# Altium schematic symbol library kmilo17pet-NSC_LDO.SchLib: 2675 symbols (part 49 of 65)
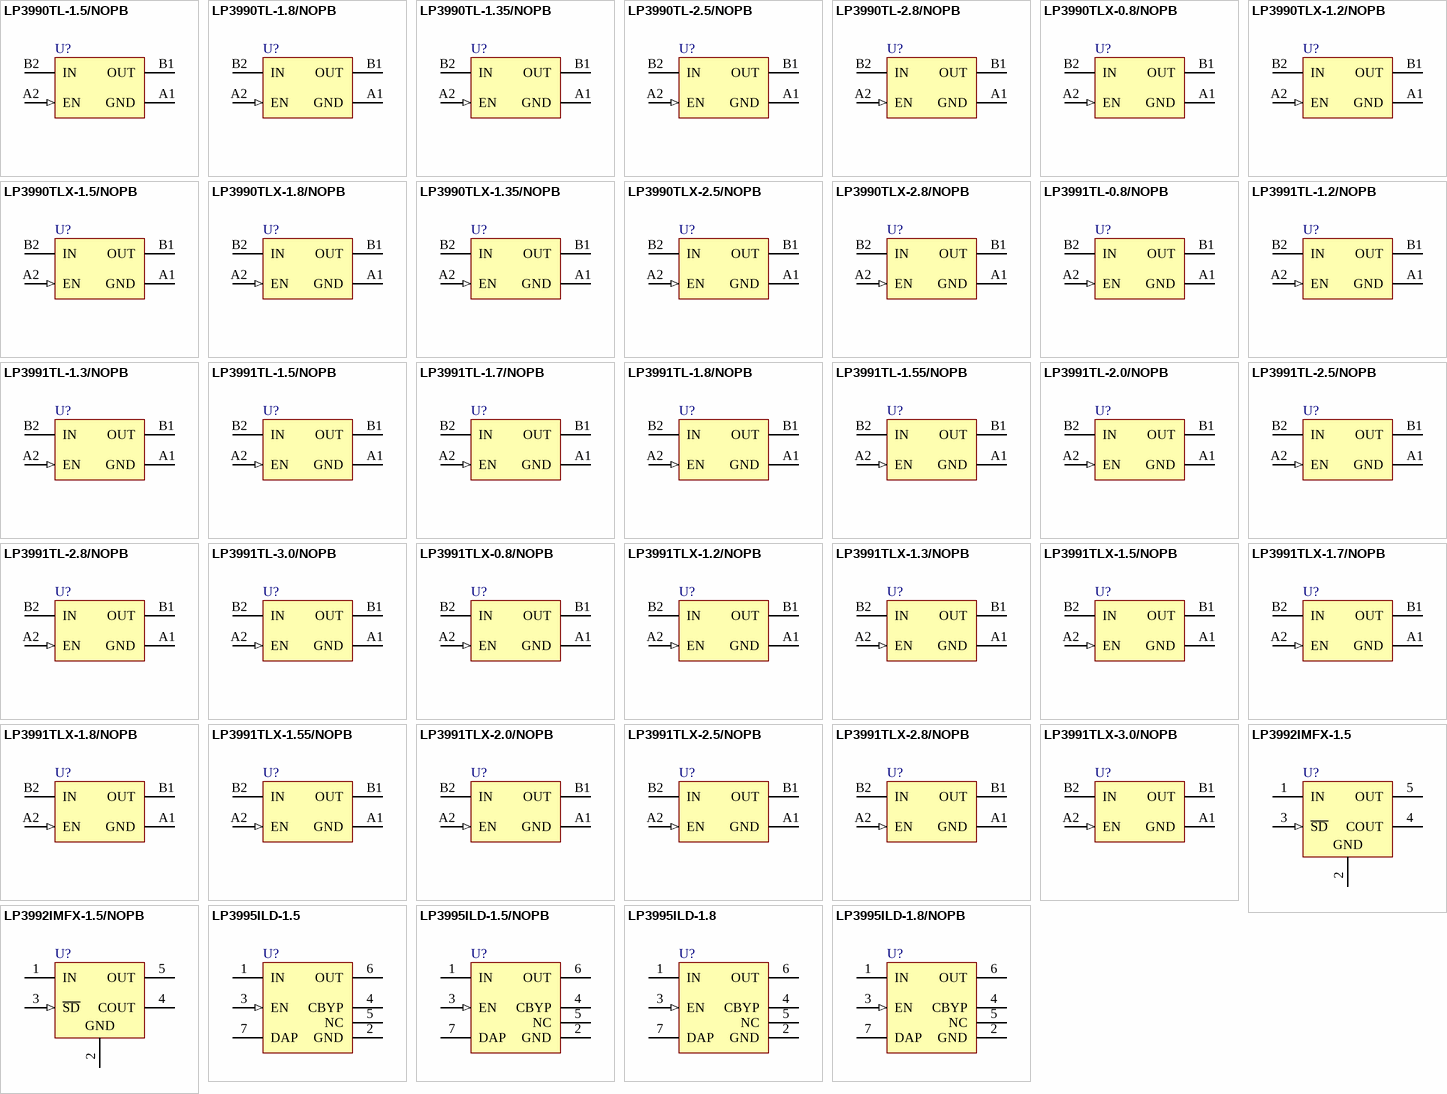
[diagram p115: symbols LP3990TL-1.5/NOPB to LP3995ILD-1.8/NOPB]

## LP3995ILD-1.8/NOPB
designator U?
Micropower 150mA CMOS Voltage Regulator with Active Shutdown., 6-pin LLP, Pb-Free; PartNumber: LP3995ILD-1.8/NOPB; Manufacturer: National Semiconductor; PackageTopMarking: ZXYTT*L022B; PowerWise: N; CompType: LDO IC; High-Reliability: Y; DatasheetVersion: Jan-2008; PackageVersion: revA, Jul-2001; PackageReference: LDE06A; PackageDescription: LLP, Plastic, Dual, 2.92 x 3.29 x 0.75mm Body, 6 Lead, 0.95mm Pitch, SOT23 Land; RoHS: Y; PinCount: 6; ComponentLink1Description: Manufacturer URL; ComponentLink1URL: http://www.national.com/; ComponentLink2Description: LP3995 Datasheet; ComponentLink2URL: http://www.national.com/ds/LP/LP3995.pdf; ComponentLink3Description: LP3995 Web Page; ComponentLink3URL: http://www.national.com/pf/LP/LP3995.html; ComponentLink4Description: LDE06A Package Page; ComponentLink4URL: http://www.national.com/packaging/folders/lde06a.html
footprint LDE06A (PSON, 6-Leads, Body 2.92x3.29 mm, Pitch 0.95mm, NSC Recommended)
pins: 1 IN (power), 2 GND (power), 3 EN (in), 4 CBYP, 5 NC, 6 OUT (power), 7 DAP (power)

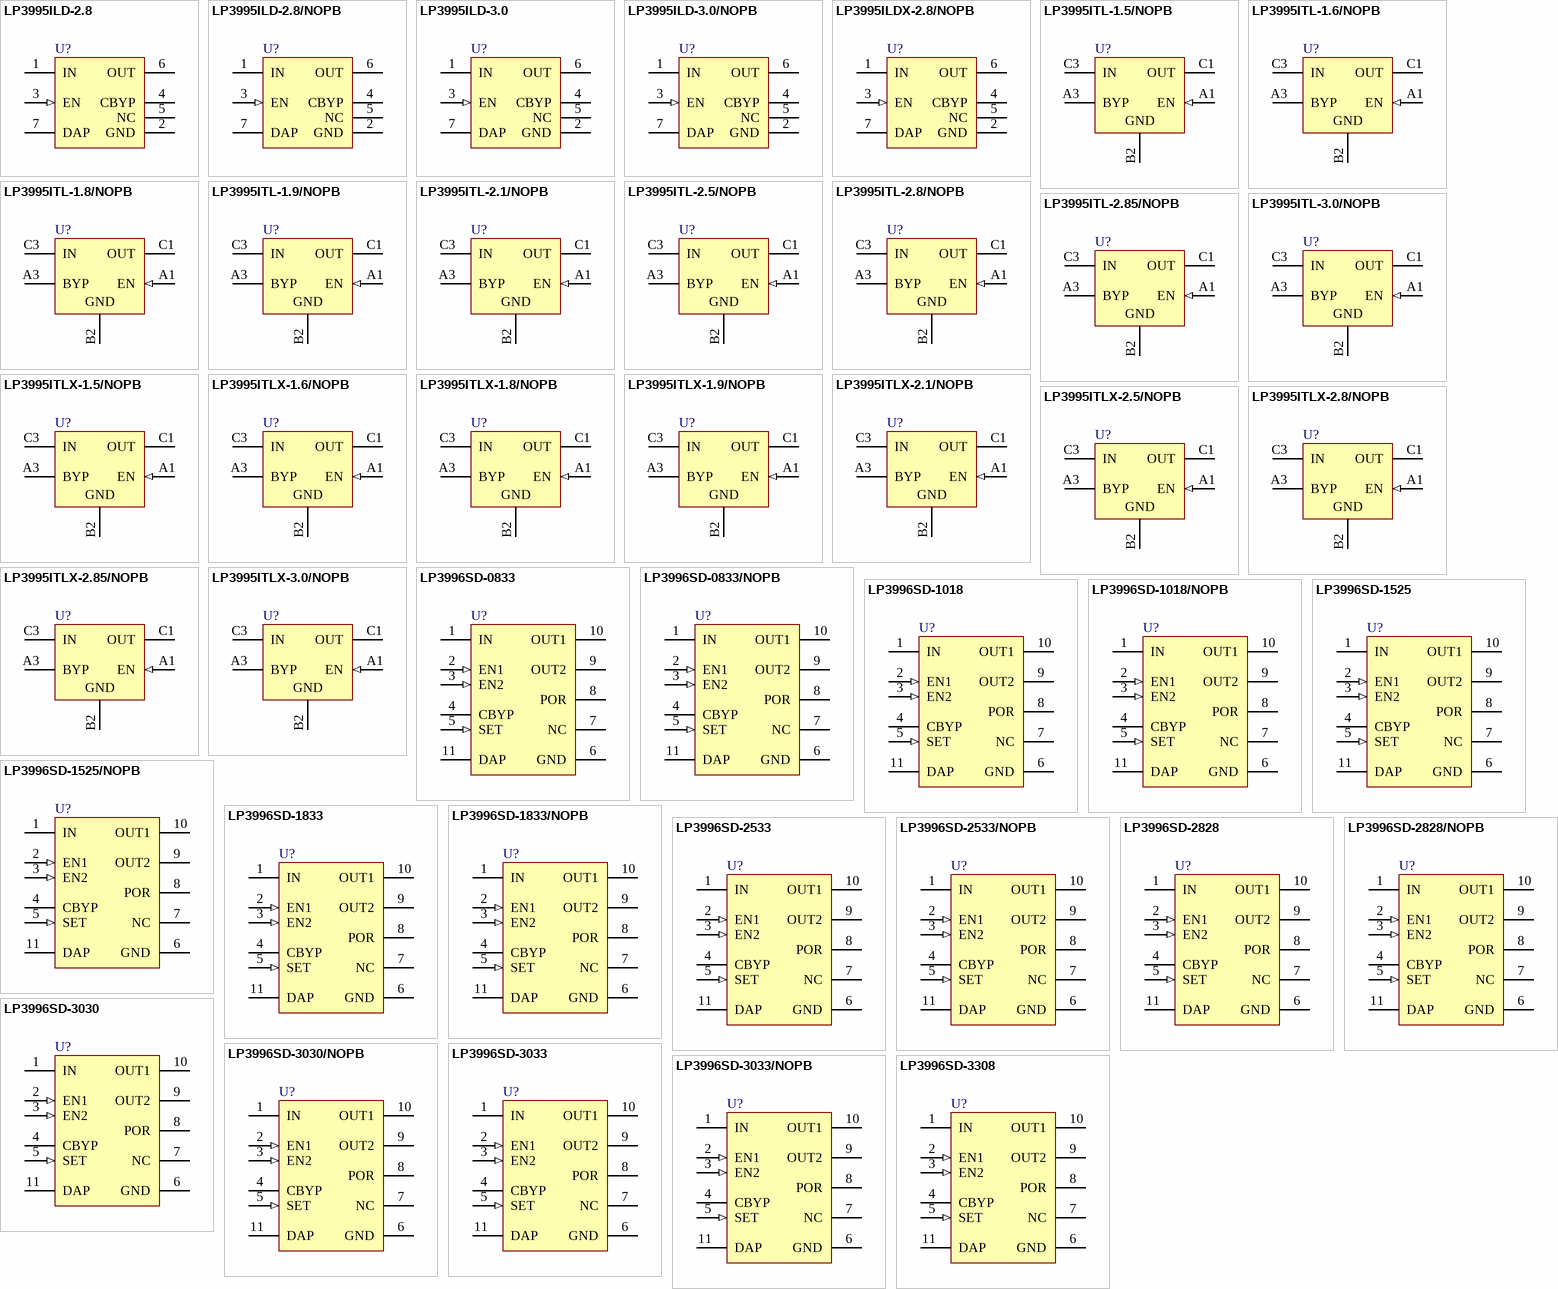
[diagram p50: symbols LP3995ILD-2.8 to LP3996SD-3308]

## LP3995ILD-2.8
designator U?
Micropower 150mA CMOS Voltage Regulator with Active Shutdown., 6-pin LLP; PartNumber: LP3995ILD-2.8; Manufacturer: National Semiconductor; PackageTopMarking: ZXYTT*L026B; PowerWise: N; CompType: LDO IC; High-Reliability: Y; DatasheetVersion: Jan-2008; PackageVersion: revA, Jul-2001; PackageReference: LDE06A; PackageDescription: LLP, Plastic, Dual, 2.92 x 3.29 x 0.75mm Body, 6 Lead, 0.95mm Pitch, SOT23 Land; RoHS: N; PinCount: 6; ComponentLink1Description: Manufacturer URL; ComponentLink1URL: http://www.national.com/; ComponentLink2Description: LP3995 Datasheet; ComponentLink2URL: http://www.national.com/ds/LP/LP3995.pdf; ComponentLink3Description: LP3995 Web Page; ComponentLink3URL: http://www.national.com/pf/LP/LP3995.html; ComponentLink4Description: LDE06A Package Page; ComponentLink4URL: http://www.national.com/packaging/folders/lde06a.html
footprint LDE06A (PSON, 6-Leads, Body 2.92x3.29 mm, Pitch 0.95mm, NSC Recommended)
pins: 1 IN (power), 2 GND (power), 3 EN (in), 4 CBYP, 5 NC, 6 OUT (power), 7 DAP (power)

## LP3995ILD-2.8/NOPB
designator U?
Micropower 150mA CMOS Voltage Regulator with Active Shutdown., 6-pin LLP, Pb-Free; PartNumber: LP3995ILD-2.8/NOPB; Manufacturer: National Semiconductor; PackageTopMarking: ZXYTT*L026B; PowerWise: N; CompType: LDO IC; High-Reliability: Y; DatasheetVersion: Jan-2008; PackageVersion: revA, Jul-2001; PackageReference: LDE06A; PackageDescription: LLP, Plastic, Dual, 2.92 x 3.29 x 0.75mm Body, 6 Lead, 0.95mm Pitch, SOT23 Land; RoHS: Y; PinCount: 6; ComponentLink1Description: Manufacturer URL; ComponentLink1URL: http://www.national.com/; ComponentLink2Description: LP3995 Datasheet; ComponentLink2URL: http://www.national.com/ds/LP/LP3995.pdf; ComponentLink3Description: LP3995 Web Page; ComponentLink3URL: http://www.national.com/pf/LP/LP3995.html; ComponentLink4Description: LDE06A Package Page; ComponentLink4URL: http://www.national.com/packaging/folders/lde06a.html
footprint LDE06A (PSON, 6-Leads, Body 2.92x3.29 mm, Pitch 0.95mm, NSC Recommended)
pins: 1 IN (power), 2 GND (power), 3 EN (in), 4 CBYP, 5 NC, 6 OUT (power), 7 DAP (power)

## LP3995ILD-3.0
designator U?
Micropower 150mA CMOS Voltage Regulator with Active Shutdown., 6-pin LLP; PartNumber: LP3995ILD-3.0; Manufacturer: National Semiconductor; PackageTopMarking: ZXYTT*L030B; PowerWise: N; CompType: LDO IC; High-Reliability: Y; DatasheetVersion: Jan-2008; PackageVersion: revA, Jul-2001; PackageReference: LDE06A; PackageDescription: LLP, Plastic, Dual, 2.92 x 3.29 x 0.75mm Body, 6 Lead, 0.95mm Pitch, SOT23 Land; RoHS: N; PinCount: 6; ComponentLink1Description: Manufacturer URL; ComponentLink1URL: http://www.national.com/; ComponentLink2Description: LP3995 Datasheet; ComponentLink2URL: http://www.national.com/ds/LP/LP3995.pdf; ComponentLink3Description: LP3995 Web Page; ComponentLink3URL: http://www.national.com/pf/LP/LP3995.html; ComponentLink4Description: LDE06A Package Page; ComponentLink4URL: http://www.national.com/packaging/folders/lde06a.html
footprint LDE06A (PSON, 6-Leads, Body 2.92x3.29 mm, Pitch 0.95mm, NSC Recommended)
pins: 1 IN (power), 2 GND (power), 3 EN (in), 4 CBYP, 5 NC, 6 OUT (power), 7 DAP (power)

## LP3995ILD-3.0/NOPB
designator U?
Micropower 150mA CMOS Voltage Regulator with Active Shutdown., 6-pin LLP, Pb-Free; PartNumber: LP3995ILD-3.0/NOPB; Manufacturer: National Semiconductor; PackageTopMarking: ZXYTT*L030B; PowerWise: N; CompType: LDO IC; High-Reliability: Y; DatasheetVersion: Jan-2008; PackageVersion: revA, Jul-2001; PackageReference: LDE06A; PackageDescription: LLP, Plastic, Dual, 2.92 x 3.29 x 0.75mm Body, 6 Lead, 0.95mm Pitch, SOT23 Land; RoHS: Y; PinCount: 6; ComponentLink1Description: Manufacturer URL; ComponentLink1URL: http://www.national.com/; ComponentLink2Description: LP3995 Datasheet; ComponentLink2URL: http://www.national.com/ds/LP/LP3995.pdf; ComponentLink3Description: LP3995 Web Page; ComponentLink3URL: http://www.national.com/pf/LP/LP3995.html; ComponentLink4Description: LDE06A Package Page; ComponentLink4URL: http://www.national.com/packaging/folders/lde06a.html
footprint LDE06A (PSON, 6-Leads, Body 2.92x3.29 mm, Pitch 0.95mm, NSC Recommended)
pins: 1 IN (power), 2 GND (power), 3 EN (in), 4 CBYP, 5 NC, 6 OUT (power), 7 DAP (power)

## LP3995ILDX-2.8/NOPB
designator U?
Micropower 150mA CMOS Voltage Regulator with Active Shutdown., 6-pin LLP, Pb-Free; PartNumber: LP3995ILDX-2.8/NOPB; Manufacturer: National Semiconductor; PackageTopMarking: ZXYTT*L026B; PowerWise: N; CompType: LDO IC; High-Reliability: Y; DatasheetVersion: Jan-2008; PackageVersion: revA, Jul-2001; PackageReference: LDE06A; PackageDescription: LLP, Plastic, Dual, 2.92 x 3.29 x 0.75mm Body, 6 Lead, 0.95mm Pitch, SOT23 Land; RoHS: Y; PinCount: 6; ComponentLink1Description: Manufacturer URL; ComponentLink1URL: http://www.national.com/; ComponentLink2Description: LP3995 Datasheet; ComponentLink2URL: http://www.national.com/ds/LP/LP3995.pdf; ComponentLink3Description: LP3995 Web Page; ComponentLink3URL: http://www.national.com/pf/LP/LP3995.html; ComponentLink4Description: LDE06A Package Page; ComponentLink4URL: http://www.national.com/packaging/folders/lde06a.html
footprint LDE06A (PSON, 6-Leads, Body 2.92x3.29 mm, Pitch 0.95mm, NSC Recommended)
pins: 1 IN (power), 2 GND (power), 3 EN (in), 4 CBYP, 5 NC, 6 OUT (power), 7 DAP (power)

## LP3995ITL-1.5/NOPB
designator U?
Micropower 150mA CMOS Voltage Regulator with Active Shutdown., 5-pin Micro SMD, Pb-Free; PartNumber: LP3995ITL-1.5/NOPB; Manufacturer: National Semiconductor; PackageTopMarking: XV*I 9; PowerWise: N; CompType: LDO IC; High-Reliability: Y; DatasheetVersion: Jan-2008; PackageVersion: revC, Feb-2005; PackageReference: TLA05ADA; PackageDescription: Thin Micro SMD, 5 Bump (Large), 0.5mm Pitch; RoHS: Y; PinCount: 5; ComponentLink1Description: Manufacturer URL; ComponentLink1URL: http://www.national.com/; ComponentLink2Description: LP3995 Datasheet; ComponentLink2URL: http://www.national.com/ds/LP/LP3995.pdf; ComponentLink3Description: LP3995 Web Page; ComponentLink3URL: http://www.national.com/pf/LP/LP3995.html; ComponentLink4Description: TLA05ADA Package Page; ComponentLink4URL: http://www.national.com/packaging/folders/tla05ada.html
footprint TLA05ADA (Micro SMD, 5-Leads, Body 1.45x1.01mm, Pitch 0.5mm, NSC Recommended)
pins: A1 EN (in), A3 BYP, B2 GND (power), C1 OUT (power), C3 IN (power)

## LP3995ITL-1.6/NOPB
designator U?
Micropower 150mA CMOS Voltage Regulator with Active Shutdown., 5-pin Micro SMD, Pb-Free; PartNumber: LP3995ITL-1.6/NOPB; Manufacturer: National Semiconductor; PackageTopMarking: XV*I 9; PowerWise: N; CompType: LDO IC; High-Reliability: Y; DatasheetVersion: Jan-2008; PackageVersion: revC, Feb-2005; PackageReference: TLA05ADA; PackageDescription: Thin Micro SMD, 5 Bump (Large), 0.5mm Pitch; RoHS: Y; PinCount: 5; ComponentLink1Description: Manufacturer URL; ComponentLink1URL: http://www.national.com/; ComponentLink2Description: LP3995 Datasheet; ComponentLink2URL: http://www.national.com/ds/LP/LP3995.pdf; ComponentLink3Description: LP3995 Web Page; ComponentLink3URL: http://www.national.com/pf/LP/LP3995.html; ComponentLink4Description: TLA05ADA Package Page; ComponentLink4URL: http://www.national.com/packaging/folders/tla05ada.html
footprint TLA05ADA (Micro SMD, 5-Leads, Body 1.45x1.01mm, Pitch 0.5mm, NSC Recommended)
pins: A1 EN (in), A3 BYP, B2 GND (power), C1 OUT (power), C3 IN (power)

## LP3995ITL-1.8/NOPB
designator U?
Micropower 150mA CMOS Voltage Regulator with Active Shutdown., 5-pin Micro SMD, Pb-Free; PartNumber: LP3995ITL-1.8/NOPB; Manufacturer: National Semiconductor; PackageTopMarking: XV*I 9; PowerWise: N; CompType: LDO IC; High-Reliability: Y; DatasheetVersion: Jan-2008; PackageVersion: revC, Feb-2005; PackageReference: TLA05ADA; PackageDescription: Thin Micro SMD, 5 Bump (Large), 0.5mm Pitch; RoHS: Y; PinCount: 5; ComponentLink1Description: Manufacturer URL; ComponentLink1URL: http://www.national.com/; ComponentLink2Description: LP3995 Datasheet; ComponentLink2URL: http://www.national.com/ds/LP/LP3995.pdf; ComponentLink3Description: LP3995 Web Page; ComponentLink3URL: http://www.national.com/pf/LP/LP3995.html; ComponentLink4Description: TLA05ADA Package Page; ComponentLink4URL: http://www.national.com/packaging/folders/tla05ada.html
footprint TLA05ADA (Micro SMD, 5-Leads, Body 1.45x1.01mm, Pitch 0.5mm, NSC Recommended)
pins: A1 EN (in), A3 BYP, B2 GND (power), C1 OUT (power), C3 IN (power)

## LP3995ITL-1.9/NOPB
designator U?
Micropower 150mA CMOS Voltage Regulator with Active Shutdown., 5-pin Micro SMD, Pb-Free; PartNumber: LP3995ITL-1.9/NOPB; Manufacturer: National Semiconductor; PackageTopMarking: XV*I 9; PowerWise: N; CompType: LDO IC; High-Reliability: Y; DatasheetVersion: Jan-2008; PackageVersion: revC, Feb-2005; PackageReference: TLA05ADA; PackageDescription: Thin Micro SMD, 5 Bump (Large), 0.5mm Pitch; RoHS: Y; PinCount: 5; ComponentLink1Description: Manufacturer URL; ComponentLink1URL: http://www.national.com/; ComponentLink2Description: LP3995 Datasheet; ComponentLink2URL: http://www.national.com/ds/LP/LP3995.pdf; ComponentLink3Description: LP3995 Web Page; ComponentLink3URL: http://www.national.com/pf/LP/LP3995.html; ComponentLink4Description: TLA05ADA Package Page; ComponentLink4URL: http://www.national.com/packaging/folders/tla05ada.html
footprint TLA05ADA (Micro SMD, 5-Leads, Body 1.45x1.01mm, Pitch 0.5mm, NSC Recommended)
pins: A1 EN (in), A3 BYP, B2 GND (power), C1 OUT (power), C3 IN (power)

## LP3995ITL-2.1/NOPB
designator U?
Micropower 150mA CMOS Voltage Regulator with Active Shutdown., 5-pin Micro SMD, Pb-Free; PartNumber: LP3995ITL-2.1/NOPB; Manufacturer: National Semiconductor; PackageTopMarking: XV*I 9; PowerWise: N; CompType: LDO IC; High-Reliability: Y; DatasheetVersion: Jan-2008; PackageVersion: revC, Feb-2005; PackageReference: TLA05ADA; PackageDescription: Thin Micro SMD, 5 Bump (Large), 0.5mm Pitch; RoHS: Y; PinCount: 5; ComponentLink1Description: Manufacturer URL; ComponentLink1URL: http://www.national.com/; ComponentLink2Description: LP3995 Datasheet; ComponentLink2URL: http://www.national.com/ds/LP/LP3995.pdf; ComponentLink3Description: LP3995 Web Page; ComponentLink3URL: http://www.national.com/pf/LP/LP3995.html; ComponentLink4Description: TLA05ADA Package Page; ComponentLink4URL: http://www.national.com/packaging/folders/tla05ada.html
footprint TLA05ADA (Micro SMD, 5-Leads, Body 1.45x1.01mm, Pitch 0.5mm, NSC Recommended)
pins: A1 EN (in), A3 BYP, B2 GND (power), C1 OUT (power), C3 IN (power)

## LP3995ITL-2.5/NOPB
designator U?
Micropower 150mA CMOS Voltage Regulator with Active Shutdown., 5-pin Micro SMD, Pb-Free; PartNumber: LP3995ITL-2.5/NOPB; Manufacturer: National Semiconductor; PackageTopMarking: XV*I 9; PowerWise: N; CompType: LDO IC; High-Reliability: Y; DatasheetVersion: Jan-2008; PackageVersion: revC, Feb-2005; PackageReference: TLA05ADA; PackageDescription: Thin Micro SMD, 5 Bump (Large), 0.5mm Pitch; RoHS: Y; PinCount: 5; ComponentLink1Description: Manufacturer URL; ComponentLink1URL: http://www.national.com/; ComponentLink2Description: LP3995 Datasheet; ComponentLink2URL: http://www.national.com/ds/LP/LP3995.pdf; ComponentLink3Description: LP3995 Web Page; ComponentLink3URL: http://www.national.com/pf/LP/LP3995.html; ComponentLink4Description: TLA05ADA Package Page; ComponentLink4URL: http://www.national.com/packaging/folders/tla05ada.html
footprint TLA05ADA (Micro SMD, 5-Leads, Body 1.45x1.01mm, Pitch 0.5mm, NSC Recommended)
pins: A1 EN (in), A3 BYP, B2 GND (power), C1 OUT (power), C3 IN (power)

## LP3995ITL-2.8/NOPB
designator U?
Micropower 150mA CMOS Voltage Regulator with Active Shutdown., 5-pin Micro SMD, Pb-Free; PartNumber: LP3995ITL-2.8/NOPB; Manufacturer: National Semiconductor; PackageTopMarking: XV*I 9; PowerWise: N; CompType: LDO IC; High-Reliability: Y; DatasheetVersion: Jan-2008; PackageVersion: revC, Feb-2005; PackageReference: TLA05ADA; PackageDescription: Thin Micro SMD, 5 Bump (Large), 0.5mm Pitch; RoHS: Y; PinCount: 5; ComponentLink1Description: Manufacturer URL; ComponentLink1URL: http://www.national.com/; ComponentLink2Description: LP3995 Datasheet; ComponentLink2URL: http://www.national.com/ds/LP/LP3995.pdf; ComponentLink3Description: LP3995 Web Page; ComponentLink3URL: http://www.national.com/pf/LP/LP3995.html; ComponentLink4Description: TLA05ADA Package Page; ComponentLink4URL: http://www.national.com/packaging/folders/tla05ada.html
footprint TLA05ADA (Micro SMD, 5-Leads, Body 1.45x1.01mm, Pitch 0.5mm, NSC Recommended)
pins: A1 EN (in), A3 BYP, B2 GND (power), C1 OUT (power), C3 IN (power)

## LP3995ITL-2.85/NOPB
designator U?
Micropower 150mA CMOS Voltage Regulator with Active Shutdown., 5-pin Micro SMD, Pb-Free; PartNumber: LP3995ITL-2.85/NOPB; Manufacturer: National Semiconductor; PackageTopMarking: XV*I 9; PowerWise: N; CompType: LDO IC; High-Reliability: Y; DatasheetVersion: Jan-2008; PackageVersion: revC, Feb-2005; PackageReference: TLA05ADA; PackageDescription: Thin Micro SMD, 5 Bump (Large), 0.5mm Pitch; RoHS: Y; PinCount: 5; ComponentLink1Description: Manufacturer URL; ComponentLink1URL: http://www.national.com/; ComponentLink2Description: LP3995 Datasheet; ComponentLink2URL: http://www.national.com/ds/LP/LP3995.pdf; ComponentLink3Description: LP3995 Web Page; ComponentLink3URL: http://www.national.com/pf/LP/LP3995.html; ComponentLink4Description: TLA05ADA Package Page; ComponentLink4URL: http://www.national.com/packaging/folders/tla05ada.html
footprint TLA05ADA (Micro SMD, 5-Leads, Body 1.45x1.01mm, Pitch 0.5mm, NSC Recommended)
pins: A1 EN (in), A3 BYP, B2 GND (power), C1 OUT (power), C3 IN (power)

## LP3995ITL-3.0/NOPB
designator U?
Micropower 150mA CMOS Voltage Regulator with Active Shutdown., 5-pin Micro SMD, Pb-Free; PartNumber: LP3995ITL-3.0/NOPB; Manufacturer: National Semiconductor; PackageTopMarking: XV*I 9; PowerWise: N; CompType: LDO IC; High-Reliability: Y; DatasheetVersion: Jan-2008; PackageVersion: revC, Feb-2005; PackageReference: TLA05ADA; PackageDescription: Thin Micro SMD, 5 Bump (Large), 0.5mm Pitch; RoHS: Y; PinCount: 5; ComponentLink1Description: Manufacturer URL; ComponentLink1URL: http://www.national.com/; ComponentLink2Description: LP3995 Datasheet; ComponentLink2URL: http://www.national.com/ds/LP/LP3995.pdf; ComponentLink3Description: LP3995 Web Page; ComponentLink3URL: http://www.national.com/pf/LP/LP3995.html; ComponentLink4Description: TLA05ADA Package Page; ComponentLink4URL: http://www.national.com/packaging/folders/tla05ada.html
footprint TLA05ADA (Micro SMD, 5-Leads, Body 1.45x1.01mm, Pitch 0.5mm, NSC Recommended)
pins: A1 EN (in), A3 BYP, B2 GND (power), C1 OUT (power), C3 IN (power)

## LP3995ITLX-1.5/NOPB
designator U?
Micropower 150mA CMOS Voltage Regulator with Active Shutdown., 5-pin Micro SMD, Pb-Free; PartNumber: LP3995ITLX-1.5/NOPB; Manufacturer: National Semiconductor; PackageTopMarking: XV*I 9; PowerWise: N; CompType: LDO IC; High-Reliability: Y; DatasheetVersion: Jan-2008; PackageVersion: revC, Feb-2005; PackageReference: TLA05ADA; PackageDescription: Thin Micro SMD, 5 Bump (Large), 0.5mm Pitch; RoHS: Y; PinCount: 5; ComponentLink1Description: Manufacturer URL; ComponentLink1URL: http://www.national.com/; ComponentLink2Description: LP3995 Datasheet; ComponentLink2URL: http://www.national.com/ds/LP/LP3995.pdf; ComponentLink3Description: LP3995 Web Page; ComponentLink3URL: http://www.national.com/pf/LP/LP3995.html; ComponentLink4Description: TLA05ADA Package Page; ComponentLink4URL: http://www.national.com/packaging/folders/tla05ada.html
footprint TLA05ADA (Micro SMD, 5-Leads, Body 1.45x1.01mm, Pitch 0.5mm, NSC Recommended)
pins: A1 EN (in), A3 BYP, B2 GND (power), C1 OUT (power), C3 IN (power)

## LP3995ITLX-1.6/NOPB
designator U?
Micropower 150mA CMOS Voltage Regulator with Active Shutdown., 5-pin Micro SMD, Pb-Free; PartNumber: LP3995ITLX-1.6/NOPB; Manufacturer: National Semiconductor; PackageTopMarking: XV*I 9; PowerWise: N; CompType: LDO IC; High-Reliability: Y; DatasheetVersion: Jan-2008; PackageVersion: revC, Feb-2005; PackageReference: TLA05ADA; PackageDescription: Thin Micro SMD, 5 Bump (Large), 0.5mm Pitch; RoHS: Y; PinCount: 5; ComponentLink1Description: Manufacturer URL; ComponentLink1URL: http://www.national.com/; ComponentLink2Description: LP3995 Datasheet; ComponentLink2URL: http://www.national.com/ds/LP/LP3995.pdf; ComponentLink3Description: LP3995 Web Page; ComponentLink3URL: http://www.national.com/pf/LP/LP3995.html; ComponentLink4Description: TLA05ADA Package Page; ComponentLink4URL: http://www.national.com/packaging/folders/tla05ada.html
footprint TLA05ADA (Micro SMD, 5-Leads, Body 1.45x1.01mm, Pitch 0.5mm, NSC Recommended)
pins: A1 EN (in), A3 BYP, B2 GND (power), C1 OUT (power), C3 IN (power)

## LP3995ITLX-1.8/NOPB
designator U?
Micropower 150mA CMOS Voltage Regulator with Active Shutdown., 5-pin Micro SMD, Pb-Free; PartNumber: LP3995ITLX-1.8/NOPB; Manufacturer: National Semiconductor; PackageTopMarking: XV*I 9; PowerWise: N; CompType: LDO IC; High-Reliability: Y; DatasheetVersion: Jan-2008; PackageVersion: revC, Feb-2005; PackageReference: TLA05ADA; PackageDescription: Thin Micro SMD, 5 Bump (Large), 0.5mm Pitch; RoHS: Y; PinCount: 5; ComponentLink1Description: Manufacturer URL; ComponentLink1URL: http://www.national.com/; ComponentLink2Description: LP3995 Datasheet; ComponentLink2URL: http://www.national.com/ds/LP/LP3995.pdf; ComponentLink3Description: LP3995 Web Page; ComponentLink3URL: http://www.national.com/pf/LP/LP3995.html; ComponentLink4Description: TLA05ADA Package Page; ComponentLink4URL: http://www.national.com/packaging/folders/tla05ada.html
footprint TLA05ADA (Micro SMD, 5-Leads, Body 1.45x1.01mm, Pitch 0.5mm, NSC Recommended)
pins: A1 EN (in), A3 BYP, B2 GND (power), C1 OUT (power), C3 IN (power)

## LP3995ITLX-1.9/NOPB
designator U?
Micropower 150mA CMOS Voltage Regulator with Active Shutdown., 5-pin Micro SMD, Pb-Free; PartNumber: LP3995ITLX-1.9/NOPB; Manufacturer: National Semiconductor; PackageTopMarking: XV*I 9; PowerWise: N; CompType: LDO IC; High-Reliability: Y; DatasheetVersion: Jan-2008; PackageVersion: revC, Feb-2005; PackageReference: TLA05ADA; PackageDescription: Thin Micro SMD, 5 Bump (Large), 0.5mm Pitch; RoHS: Y; PinCount: 5; ComponentLink1Description: Manufacturer URL; ComponentLink1URL: http://www.national.com/; ComponentLink2Description: LP3995 Datasheet; ComponentLink2URL: http://www.national.com/ds/LP/LP3995.pdf; ComponentLink3Description: LP3995 Web Page; ComponentLink3URL: http://www.national.com/pf/LP/LP3995.html; ComponentLink4Description: TLA05ADA Package Page; ComponentLink4URL: http://www.national.com/packaging/folders/tla05ada.html
footprint TLA05ADA (Micro SMD, 5-Leads, Body 1.45x1.01mm, Pitch 0.5mm, NSC Recommended)
pins: A1 EN (in), A3 BYP, B2 GND (power), C1 OUT (power), C3 IN (power)

## LP3995ITLX-2.1/NOPB
designator U?
Micropower 150mA CMOS Voltage Regulator with Active Shutdown., 5-pin Micro SMD, Pb-Free; PartNumber: LP3995ITLX-2.1/NOPB; Manufacturer: National Semiconductor; PackageTopMarking: XV*I 9; PowerWise: N; CompType: LDO IC; High-Reliability: Y; DatasheetVersion: Jan-2008; PackageVersion: revC, Feb-2005; PackageReference: TLA05ADA; PackageDescription: Thin Micro SMD, 5 Bump (Large), 0.5mm Pitch; RoHS: Y; PinCount: 5; ComponentLink1Description: Manufacturer URL; ComponentLink1URL: http://www.national.com/; ComponentLink2Description: LP3995 Datasheet; ComponentLink2URL: http://www.national.com/ds/LP/LP3995.pdf; ComponentLink3Description: LP3995 Web Page; ComponentLink3URL: http://www.national.com/pf/LP/LP3995.html; ComponentLink4Description: TLA05ADA Package Page; ComponentLink4URL: http://www.national.com/packaging/folders/tla05ada.html
footprint TLA05ADA (Micro SMD, 5-Leads, Body 1.45x1.01mm, Pitch 0.5mm, NSC Recommended)
pins: A1 EN (in), A3 BYP, B2 GND (power), C1 OUT (power), C3 IN (power)

## LP3995ITLX-2.5/NOPB
designator U?
Micropower 150mA CMOS Voltage Regulator with Active Shutdown., 5-pin Micro SMD, Pb-Free; PartNumber: LP3995ITLX-2.5/NOPB; Manufacturer: National Semiconductor; PackageTopMarking: XV*I 9; PowerWise: N; CompType: LDO IC; High-Reliability: Y; DatasheetVersion: Jan-2008; PackageVersion: revC, Feb-2005; PackageReference: TLA05ADA; PackageDescription: Thin Micro SMD, 5 Bump (Large), 0.5mm Pitch; RoHS: Y; PinCount: 5; ComponentLink1Description: Manufacturer URL; ComponentLink1URL: http://www.national.com/; ComponentLink2Description: LP3995 Datasheet; ComponentLink2URL: http://www.national.com/ds/LP/LP3995.pdf; ComponentLink3Description: LP3995 Web Page; ComponentLink3URL: http://www.national.com/pf/LP/LP3995.html; ComponentLink4Description: TLA05ADA Package Page; ComponentLink4URL: http://www.national.com/packaging/folders/tla05ada.html
footprint TLA05ADA (Micro SMD, 5-Leads, Body 1.45x1.01mm, Pitch 0.5mm, NSC Recommended)
pins: A1 EN (in), A3 BYP, B2 GND (power), C1 OUT (power), C3 IN (power)

## LP3995ITLX-2.8/NOPB
designator U?
Micropower 150mA CMOS Voltage Regulator with Active Shutdown., 5-pin Micro SMD, Pb-Free; PartNumber: LP3995ITLX-2.8/NOPB; Manufacturer: National Semiconductor; PackageTopMarking: XV*I 9; PowerWise: N; CompType: LDO IC; High-Reliability: Y; DatasheetVersion: Jan-2008; PackageVersion: revC, Feb-2005; PackageReference: TLA05ADA; PackageDescription: Thin Micro SMD, 5 Bump (Large), 0.5mm Pitch; RoHS: Y; PinCount: 5; ComponentLink1Description: Manufacturer URL; ComponentLink1URL: http://www.national.com/; ComponentLink2Description: LP3995 Datasheet; ComponentLink2URL: http://www.national.com/ds/LP/LP3995.pdf; ComponentLink3Description: LP3995 Web Page; ComponentLink3URL: http://www.national.com/pf/LP/LP3995.html; ComponentLink4Description: TLA05ADA Package Page; ComponentLink4URL: http://www.national.com/packaging/folders/tla05ada.html
footprint TLA05ADA (Micro SMD, 5-Leads, Body 1.45x1.01mm, Pitch 0.5mm, NSC Recommended)
pins: A1 EN (in), A3 BYP, B2 GND (power), C1 OUT (power), C3 IN (power)

## LP3995ITLX-2.85/NOPB
designator U?
Micropower 150mA CMOS Voltage Regulator with Active Shutdown., 5-pin Micro SMD, Pb-Free; PartNumber: LP3995ITLX-2.85/NOPB; Manufacturer: National Semiconductor; PackageTopMarking: XV*I 9; PowerWise: N; CompType: LDO IC; High-Reliability: Y; DatasheetVersion: Jan-2008; PackageVersion: revC, Feb-2005; PackageReference: TLA05ADA; PackageDescription: Thin Micro SMD, 5 Bump (Large), 0.5mm Pitch; RoHS: Y; PinCount: 5; ComponentLink1Description: Manufacturer URL; ComponentLink1URL: http://www.national.com/; ComponentLink2Description: LP3995 Datasheet; ComponentLink2URL: http://www.national.com/ds/LP/LP3995.pdf; ComponentLink3Description: LP3995 Web Page; ComponentLink3URL: http://www.national.com/pf/LP/LP3995.html; ComponentLink4Description: TLA05ADA Package Page; ComponentLink4URL: http://www.national.com/packaging/folders/tla05ada.html
footprint TLA05ADA (Micro SMD, 5-Leads, Body 1.45x1.01mm, Pitch 0.5mm, NSC Recommended)
pins: A1 EN (in), A3 BYP, B2 GND (power), C1 OUT (power), C3 IN (power)

## LP3995ITLX-3.0/NOPB
designator U?
Micropower 150mA CMOS Voltage Regulator with Active Shutdown., 5-pin Micro SMD, Pb-Free; PartNumber: LP3995ITLX-3.0/NOPB; Manufacturer: National Semiconductor; PackageTopMarking: XV*I 9; PowerWise: N; CompType: LDO IC; High-Reliability: Y; DatasheetVersion: Jan-2008; PackageVersion: revC, Feb-2005; PackageReference: TLA05ADA; PackageDescription: Thin Micro SMD, 5 Bump (Large), 0.5mm Pitch; RoHS: Y; PinCount: 5; ComponentLink1Description: Manufacturer URL; ComponentLink1URL: http://www.national.com/; ComponentLink2Description: LP3995 Datasheet; ComponentLink2URL: http://www.national.com/ds/LP/LP3995.pdf; ComponentLink3Description: LP3995 Web Page; ComponentLink3URL: http://www.national.com/pf/LP/LP3995.html; ComponentLink4Description: TLA05ADA Package Page; ComponentLink4URL: http://www.national.com/packaging/folders/tla05ada.html
footprint TLA05ADA (Micro SMD, 5-Leads, Body 1.45x1.01mm, Pitch 0.5mm, NSC Recommended)
pins: A1 EN (in), A3 BYP, B2 GND (power), C1 OUT (power), C3 IN (power)

## LP3996SD-0833
designator U?
Dual Linear Regulator with 300mA and 150mA Outputs and Power-On-Reset, 10-pin LLP; PartNumber: LP3996SD-0833; Manufacturer: National Semiconductor; PackageTopMarking: ZXYTT*L167B; PowerWise: N; CompType: LDO IC; High-Reliability: Y; DatasheetVersion: Jan-2008; PackageVersion: revA, Oct-2003; PackageReference: SDA10A; PackageDescription: LLP, Plastic, Dual, 3 x 3 x 0.8mm Body, 10 Lead, 0.5mm Pitch, No Pullback; RoHS: N; PinCount: 10; ComponentLink1Description: Manufacturer URL; ComponentLink1URL: http://www.national.com/; ComponentLink2Description: LP3996 Datasheet; ComponentLink2URL: http://www.national.com/ds/LP/LP3996.pdf; ComponentLink3Description: LP3996 Web Page; ComponentLink3URL: http://www.national.com/pf/LP/LP3996.html; ComponentLink4Description: SDA10A Package Page; ComponentLink4URL: http://www.national.com/packaging/folders/sda10a.html
footprint SDA10A (SON, 10-Leads, Body 3x3 mm, Pitch 0.5mm, NSC Recommended)
pins: 1 IN (power), 2 EN1 (in), 3 EN2 (in), 4 CBYP, 5 SET (in), 6 GND (power), 7 NC, 8 POR (oc), 9 OUT2 (power), 10 OUT1 (power), 11 DAP (power)

## LP3996SD-0833/NOPB
designator U?
Dual Linear Regulator with 300mA and 150mA Outputs and Power-On-Reset, 10-pin LLP, Pb-Free; PartNumber: LP3996SD-0833/NOPB; Manufacturer: National Semiconductor; PackageTopMarking: ZXYTT*L167B; PowerWise: N; CompType: LDO IC; High-Reliability: Y; DatasheetVersion: Jan-2008; PackageVersion: revA, Oct-2003; PackageReference: SDA10A; PackageDescription: LLP, Plastic, Dual, 3 x 3 x 0.8mm Body, 10 Lead, 0.5mm Pitch, No Pullback; RoHS: Y; PinCount: 10; ComponentLink1Description: Manufacturer URL; ComponentLink1URL: http://www.national.com/; ComponentLink2Description: LP3996 Datasheet; ComponentLink2URL: http://www.national.com/ds/LP/LP3996.pdf; ComponentLink3Description: LP3996 Web Page; ComponentLink3URL: http://www.national.com/pf/LP/LP3996.html; ComponentLink4Description: SDA10A Package Page; ComponentLink4URL: http://www.national.com/packaging/folders/sda10a.html
footprint SDA10A (SON, 10-Leads, Body 3x3 mm, Pitch 0.5mm, NSC Recommended)
pins: 1 IN (power), 2 EN1 (in), 3 EN2 (in), 4 CBYP, 5 SET (in), 6 GND (power), 7 NC, 8 POR (oc), 9 OUT2 (power), 10 OUT1 (power), 11 DAP (power)

## LP3996SD-1018
designator U?
Dual Linear Regulator with 300mA and 150mA Outputs and Power-On-Reset, 10-pin LLP; PartNumber: LP3996SD-1018; Manufacturer: National Semiconductor; PackageTopMarking: ZXYTT*L227B; PowerWise: N; CompType: LDO IC; High-Reliability: Y; DatasheetVersion: Jan-2008; PackageVersion: revA, Oct-2003; PackageReference: SDA10A; PackageDescription: LLP, Plastic, Dual, 3 x 3 x 0.8mm Body, 10 Lead, 0.5mm Pitch, No Pullback; RoHS: Y; PinCount: 10; ComponentLink1Description: Manufacturer URL; ComponentLink1URL: http://www.national.com/; ComponentLink2Description: LP3996 Datasheet; ComponentLink2URL: http://www.national.com/ds/LP/LP3996.pdf; ComponentLink3Description: LP3996 Web Page; ComponentLink3URL: http://www.national.com/pf/LP/LP3996.html; ComponentLink4Description: SDA10A Package Page; ComponentLink4URL: http://www.national.com/packaging/folders/sda10a.html
footprint SDA10A (SON, 10-Leads, Body 3x3 mm, Pitch 0.5mm, NSC Recommended)
pins: 1 IN (power), 2 EN1 (in), 3 EN2 (in), 4 CBYP, 5 SET (in), 6 GND (power), 7 NC, 8 POR (oc), 9 OUT2 (power), 10 OUT1 (power), 11 DAP (power)

## LP3996SD-1018/NOPB
designator U?
Dual Linear Regulator with 300mA and 150mA Outputs and Power-On-Reset, 10-pin LLP, Pb-Free; PartNumber: LP3996SD-1018/NOPB; Manufacturer: National Semiconductor; PackageTopMarking: ZXYTT*L227B; PowerWise: N; CompType: LDO IC; High-Reliability: Y; DatasheetVersion: Jan-2008; PackageVersion: revA, Oct-2003; PackageReference: SDA10A; PackageDescription: LLP, Plastic, Dual, 3 x 3 x 0.8mm Body, 10 Lead, 0.5mm Pitch, No Pullback; RoHS: Y; PinCount: 10; ComponentLink1Description: Manufacturer URL; ComponentLink1URL: http://www.national.com/; ComponentLink2Description: LP3996 Datasheet; ComponentLink2URL: http://www.national.com/ds/LP/LP3996.pdf; ComponentLink3Description: LP3996 Web Page; ComponentLink3URL: http://www.national.com/pf/LP/LP3996.html; ComponentLink4Description: SDA10A Package Page; ComponentLink4URL: http://www.national.com/packaging/folders/sda10a.html
footprint SDA10A (SON, 10-Leads, Body 3x3 mm, Pitch 0.5mm, NSC Recommended)
pins: 1 IN (power), 2 EN1 (in), 3 EN2 (in), 4 CBYP, 5 SET (in), 6 GND (power), 7 NC, 8 POR (oc), 9 OUT2 (power), 10 OUT1 (power), 11 DAP (power)

## LP3996SD-1525
designator U?
Dual Linear Regulator with 300mA and 150mA Outputs and Power-On-Reset, 10-pin LLP; PartNumber: LP3996SD-1525; Manufacturer: National Semiconductor; PackageTopMarking: ZXYTT*L168B; PowerWise: N; CompType: LDO IC; High-Reliability: Y; DatasheetVersion: Jan-2008; PackageVersion: revA, Oct-2003; PackageReference: SDA10A; PackageDescription: LLP, Plastic, Dual, 3 x 3 x 0.8mm Body, 10 Lead, 0.5mm Pitch, No Pullback; RoHS: N; PinCount: 10; ComponentLink1Description: Manufacturer URL; ComponentLink1URL: http://www.national.com/; ComponentLink2Description: LP3996 Datasheet; ComponentLink2URL: http://www.national.com/ds/LP/LP3996.pdf; ComponentLink3Description: LP3996 Web Page; ComponentLink3URL: http://www.national.com/pf/LP/LP3996.html; ComponentLink4Description: SDA10A Package Page; ComponentLink4URL: http://www.national.com/packaging/folders/sda10a.html
footprint SDA10A (SON, 10-Leads, Body 3x3 mm, Pitch 0.5mm, NSC Recommended)
pins: 1 IN (power), 2 EN1 (in), 3 EN2 (in), 4 CBYP, 5 SET (in), 6 GND (power), 7 NC, 8 POR (oc), 9 OUT2 (power), 10 OUT1 (power), 11 DAP (power)

## LP3996SD-1525/NOPB
designator U?
Dual Linear Regulator with 300mA and 150mA Outputs and Power-On-Reset, 10-pin LLP, Pb-Free; PartNumber: LP3996SD-1525/NOPB; Manufacturer: National Semiconductor; PackageTopMarking: ZXYTT*L168B; PowerWise: N; CompType: LDO IC; High-Reliability: Y; DatasheetVersion: Jan-2008; PackageVersion: revA, Oct-2003; PackageReference: SDA10A; PackageDescription: LLP, Plastic, Dual, 3 x 3 x 0.8mm Body, 10 Lead, 0.5mm Pitch, No Pullback; RoHS: Y; PinCount: 10; ComponentLink1Description: Manufacturer URL; ComponentLink1URL: http://www.national.com/; ComponentLink2Description: LP3996 Datasheet; ComponentLink2URL: http://www.national.com/ds/LP/LP3996.pdf; ComponentLink3Description: LP3996 Web Page; ComponentLink3URL: http://www.national.com/pf/LP/LP3996.html; ComponentLink4Description: SDA10A Package Page; ComponentLink4URL: http://www.national.com/packaging/folders/sda10a.html
footprint SDA10A (SON, 10-Leads, Body 3x3 mm, Pitch 0.5mm, NSC Recommended)
pins: 1 IN (power), 2 EN1 (in), 3 EN2 (in), 4 CBYP, 5 SET (in), 6 GND (power), 7 NC, 8 POR (oc), 9 OUT2 (power), 10 OUT1 (power), 11 DAP (power)

## LP3996SD-1833
designator U?
Dual Linear Regulator with 300mA and 150mA Outputs and Power-On-Reset, 10-pin LLP; PartNumber: LP3996SD-1833; Manufacturer: National Semiconductor; PackageTopMarking: ZXYTT*L228B; PowerWise: N; CompType: LDO IC; High-Reliability: Y; DatasheetVersion: Jan-2008; PackageVersion: revA, Oct-2003; PackageReference: SDA10A; PackageDescription: LLP, Plastic, Dual, 3 x 3 x 0.8mm Body, 10 Lead, 0.5mm Pitch, No Pullback; RoHS: Y; PinCount: 10; ComponentLink1Description: Manufacturer URL; ComponentLink1URL: http://www.national.com/; ComponentLink2Description: LP3996 Datasheet; ComponentLink2URL: http://www.national.com/ds/LP/LP3996.pdf; ComponentLink3Description: LP3996 Web Page; ComponentLink3URL: http://www.national.com/pf/LP/LP3996.html; ComponentLink4Description: SDA10A Package Page; ComponentLink4URL: http://www.national.com/packaging/folders/sda10a.html
footprint SDA10A (SON, 10-Leads, Body 3x3 mm, Pitch 0.5mm, NSC Recommended)
pins: 1 IN (power), 2 EN1 (in), 3 EN2 (in), 4 CBYP, 5 SET (in), 6 GND (power), 7 NC, 8 POR (oc), 9 OUT2 (power), 10 OUT1 (power), 11 DAP (power)

## LP3996SD-1833/NOPB
designator U?
Dual Linear Regulator with 300mA and 150mA Outputs and Power-On-Reset, 10-pin LLP, Pb-Free; PartNumber: LP3996SD-1833/NOPB; Manufacturer: National Semiconductor; PackageTopMarking: ZXYTT*L228B; PowerWise: N; CompType: LDO IC; High-Reliability: Y; DatasheetVersion: Jan-2008; PackageVersion: revA, Oct-2003; PackageReference: SDA10A; PackageDescription: LLP, Plastic, Dual, 3 x 3 x 0.8mm Body, 10 Lead, 0.5mm Pitch, No Pullback; RoHS: Y; PinCount: 10; ComponentLink1Description: Manufacturer URL; ComponentLink1URL: http://www.national.com/; ComponentLink2Description: LP3996 Datasheet; ComponentLink2URL: http://www.national.com/ds/LP/LP3996.pdf; ComponentLink3Description: LP3996 Web Page; ComponentLink3URL: http://www.national.com/pf/LP/LP3996.html; ComponentLink4Description: SDA10A Package Page; ComponentLink4URL: http://www.national.com/packaging/folders/sda10a.html
footprint SDA10A (SON, 10-Leads, Body 3x3 mm, Pitch 0.5mm, NSC Recommended)
pins: 1 IN (power), 2 EN1 (in), 3 EN2 (in), 4 CBYP, 5 SET (in), 6 GND (power), 7 NC, 8 POR (oc), 9 OUT2 (power), 10 OUT1 (power), 11 DAP (power)

## LP3996SD-2533
designator U?
Dual Linear Regulator with 300mA and 150mA Outputs and Power-On-Reset, 10-pin LLP; PartNumber: LP3996SD-2533; Manufacturer: National Semiconductor; PackageTopMarking: ZXYTT*L229B; PowerWise: N; CompType: LDO IC; High-Reliability: Y; DatasheetVersion: Jan-2008; PackageVersion: revA, Oct-2003; PackageReference: SDA10A; PackageDescription: LLP, Plastic, Dual, 3 x 3 x 0.8mm Body, 10 Lead, 0.5mm Pitch, No Pullback; RoHS: Y; PinCount: 10; ComponentLink1Description: Manufacturer URL; ComponentLink1URL: http://www.national.com/; ComponentLink2Description: LP3996 Datasheet; ComponentLink2URL: http://www.national.com/ds/LP/LP3996.pdf; ComponentLink3Description: LP3996 Web Page; ComponentLink3URL: http://www.national.com/pf/LP/LP3996.html; ComponentLink4Description: SDA10A Package Page; ComponentLink4URL: http://www.national.com/packaging/folders/sda10a.html
footprint SDA10A (SON, 10-Leads, Body 3x3 mm, Pitch 0.5mm, NSC Recommended)
pins: 1 IN (power), 2 EN1 (in), 3 EN2 (in), 4 CBYP, 5 SET (in), 6 GND (power), 7 NC, 8 POR (oc), 9 OUT2 (power), 10 OUT1 (power), 11 DAP (power)

## LP3996SD-2533/NOPB
designator U?
Dual Linear Regulator with 300mA and 150mA Outputs and Power-On-Reset, 10-pin LLP, Pb-Free; PartNumber: LP3996SD-2533/NOPB; Manufacturer: National Semiconductor; PackageTopMarking: ZXYTT*L229B; PowerWise: N; CompType: LDO IC; High-Reliability: Y; DatasheetVersion: Jan-2008; PackageVersion: revA, Oct-2003; PackageReference: SDA10A; PackageDescription: LLP, Plastic, Dual, 3 x 3 x 0.8mm Body, 10 Lead, 0.5mm Pitch, No Pullback; RoHS: Y; PinCount: 10; ComponentLink1Description: Manufacturer URL; ComponentLink1URL: http://www.national.com/; ComponentLink2Description: LP3996 Datasheet; ComponentLink2URL: http://www.national.com/ds/LP/LP3996.pdf; ComponentLink3Description: LP3996 Web Page; ComponentLink3URL: http://www.national.com/pf/LP/LP3996.html; ComponentLink4Description: SDA10A Package Page; ComponentLink4URL: http://www.national.com/packaging/folders/sda10a.html
footprint SDA10A (SON, 10-Leads, Body 3x3 mm, Pitch 0.5mm, NSC Recommended)
pins: 1 IN (power), 2 EN1 (in), 3 EN2 (in), 4 CBYP, 5 SET (in), 6 GND (power), 7 NC, 8 POR (oc), 9 OUT2 (power), 10 OUT1 (power), 11 DAP (power)

## LP3996SD-2828
designator U?
Dual Linear Regulator with 300mA and 150mA Outputs and Power-On-Reset, 10-pin LLP; PartNumber: LP3996SD-2828; Manufacturer: National Semiconductor; PackageTopMarking: ZXYTT*L171B; PowerWise: N; CompType: LDO IC; High-Reliability: Y; DatasheetVersion: Jan-2008; PackageVersion: revA, Oct-2003; PackageReference: SDA10A; PackageDescription: LLP, Plastic, Dual, 3 x 3 x 0.8mm Body, 10 Lead, 0.5mm Pitch, No Pullback; RoHS: N; PinCount: 10; ComponentLink1Description: Manufacturer URL; ComponentLink1URL: http://www.national.com/; ComponentLink2Description: LP3996 Datasheet; ComponentLink2URL: http://www.national.com/ds/LP/LP3996.pdf; ComponentLink3Description: LP3996 Web Page; ComponentLink3URL: http://www.national.com/pf/LP/LP3996.html; ComponentLink4Description: SDA10A Package Page; ComponentLink4URL: http://www.national.com/packaging/folders/sda10a.html
footprint SDA10A (SON, 10-Leads, Body 3x3 mm, Pitch 0.5mm, NSC Recommended)
pins: 1 IN (power), 2 EN1 (in), 3 EN2 (in), 4 CBYP, 5 SET (in), 6 GND (power), 7 NC, 8 POR (oc), 9 OUT2 (power), 10 OUT1 (power), 11 DAP (power)

## LP3996SD-2828/NOPB
designator U?
Dual Linear Regulator with 300mA and 150mA Outputs and Power-On-Reset, 10-pin LLP, Pb-Free; PartNumber: LP3996SD-2828/NOPB; Manufacturer: National Semiconductor; PackageTopMarking: ZXYTT*L171B; PowerWise: N; CompType: LDO IC; High-Reliability: Y; DatasheetVersion: Jan-2008; PackageVersion: revA, Oct-2003; PackageReference: SDA10A; PackageDescription: LLP, Plastic, Dual, 3 x 3 x 0.8mm Body, 10 Lead, 0.5mm Pitch, No Pullback; RoHS: Y; PinCount: 10; ComponentLink1Description: Manufacturer URL; ComponentLink1URL: http://www.national.com/; ComponentLink2Description: LP3996 Datasheet; ComponentLink2URL: http://www.national.com/ds/LP/LP3996.pdf; ComponentLink3Description: LP3996 Web Page; ComponentLink3URL: http://www.national.com/pf/LP/LP3996.html; ComponentLink4Description: SDA10A Package Page; ComponentLink4URL: http://www.national.com/packaging/folders/sda10a.html
footprint SDA10A (SON, 10-Leads, Body 3x3 mm, Pitch 0.5mm, NSC Recommended)
pins: 1 IN (power), 2 EN1 (in), 3 EN2 (in), 4 CBYP, 5 SET (in), 6 GND (power), 7 NC, 8 POR (oc), 9 OUT2 (power), 10 OUT1 (power), 11 DAP (power)

## LP3996SD-3030
designator U?
Dual Linear Regulator with 300mA and 150mA Outputs and Power-On-Reset, 10-pin LLP; PartNumber: LP3996SD-3030; Manufacturer: National Semiconductor; PackageTopMarking: ZXYTT*L172B; PowerWise: N; CompType: LDO IC; High-Reliability: Y; DatasheetVersion: Jan-2008; PackageVersion: revA, Oct-2003; PackageReference: SDA10A; PackageDescription: LLP, Plastic, Dual, 3 x 3 x 0.8mm Body, 10 Lead, 0.5mm Pitch, No Pullback; RoHS: N; PinCount: 10; ComponentLink1Description: Manufacturer URL; ComponentLink1URL: http://www.national.com/; ComponentLink2Description: LP3996 Datasheet; ComponentLink2URL: http://www.national.com/ds/LP/LP3996.pdf; ComponentLink3Description: LP3996 Web Page; ComponentLink3URL: http://www.national.com/pf/LP/LP3996.html; ComponentLink4Description: SDA10A Package Page; ComponentLink4URL: http://www.national.com/packaging/folders/sda10a.html
footprint SDA10A (SON, 10-Leads, Body 3x3 mm, Pitch 0.5mm, NSC Recommended)
pins: 1 IN (power), 2 EN1 (in), 3 EN2 (in), 4 CBYP, 5 SET (in), 6 GND (power), 7 NC, 8 POR (oc), 9 OUT2 (power), 10 OUT1 (power), 11 DAP (power)

## LP3996SD-3030/NOPB
designator U?
Dual Linear Regulator with 300mA and 150mA Outputs and Power-On-Reset, 10-pin LLP, Pb-Free; PartNumber: LP3996SD-3030/NOPB; Manufacturer: National Semiconductor; PackageTopMarking: ZXYTT*L172B; PowerWise: N; CompType: LDO IC; High-Reliability: Y; DatasheetVersion: Jan-2008; PackageVersion: revA, Oct-2003; PackageReference: SDA10A; PackageDescription: LLP, Plastic, Dual, 3 x 3 x 0.8mm Body, 10 Lead, 0.5mm Pitch, No Pullback; RoHS: Y; PinCount: 10; ComponentLink1Description: Manufacturer URL; ComponentLink1URL: http://www.national.com/; ComponentLink2Description: LP3996 Datasheet; ComponentLink2URL: http://www.national.com/ds/LP/LP3996.pdf; ComponentLink3Description: LP3996 Web Page; ComponentLink3URL: http://www.national.com/pf/LP/LP3996.html; ComponentLink4Description: SDA10A Package Page; ComponentLink4URL: http://www.national.com/packaging/folders/sda10a.html
footprint SDA10A (SON, 10-Leads, Body 3x3 mm, Pitch 0.5mm, NSC Recommended)
pins: 1 IN (power), 2 EN1 (in), 3 EN2 (in), 4 CBYP, 5 SET (in), 6 GND (power), 7 NC, 8 POR (oc), 9 OUT2 (power), 10 OUT1 (power), 11 DAP (power)

## LP3996SD-3033
designator U?
Dual Linear Regulator with 300mA and 150mA Outputs and Power-On-Reset, 10-pin LLP; PartNumber: LP3996SD-3033; Manufacturer: National Semiconductor; PackageTopMarking: ZXYTT*L170B; PowerWise: N; CompType: LDO IC; High-Reliability: Y; DatasheetVersion: Jan-2008; PackageVersion: revA, Oct-2003; PackageReference: SDA10A; PackageDescription: LLP, Plastic, Dual, 3 x 3 x 0.8mm Body, 10 Lead, 0.5mm Pitch, No Pullback; RoHS: N; PinCount: 10; ComponentLink1Description: Manufacturer URL; ComponentLink1URL: http://www.national.com/; ComponentLink2Description: LP3996 Datasheet; ComponentLink2URL: http://www.national.com/ds/LP/LP3996.pdf; ComponentLink3Description: LP3996 Web Page; ComponentLink3URL: http://www.national.com/pf/LP/LP3996.html; ComponentLink4Description: SDA10A Package Page; ComponentLink4URL: http://www.national.com/packaging/folders/sda10a.html
footprint SDA10A (SON, 10-Leads, Body 3x3 mm, Pitch 0.5mm, NSC Recommended)
pins: 1 IN (power), 2 EN1 (in), 3 EN2 (in), 4 CBYP, 5 SET (in), 6 GND (power), 7 NC, 8 POR (oc), 9 OUT2 (power), 10 OUT1 (power), 11 DAP (power)

## LP3996SD-3033/NOPB
designator U?
Dual Linear Regulator with 300mA and 150mA Outputs and Power-On-Reset, 10-pin LLP, Pb-Free; PartNumber: LP3996SD-3033/NOPB; Manufacturer: National Semiconductor; PackageTopMarking: ZXYTT*L170B; PowerWise: N; CompType: LDO IC; High-Reliability: Y; DatasheetVersion: Jan-2008; PackageVersion: revA, Oct-2003; PackageReference: SDA10A; PackageDescription: LLP, Plastic, Dual, 3 x 3 x 0.8mm Body, 10 Lead, 0.5mm Pitch, No Pullback; RoHS: Y; PinCount: 10; ComponentLink1Description: Manufacturer URL; ComponentLink1URL: http://www.national.com/; ComponentLink2Description: LP3996 Datasheet; ComponentLink2URL: http://www.national.com/ds/LP/LP3996.pdf; ComponentLink3Description: LP3996 Web Page; ComponentLink3URL: http://www.national.com/pf/LP/LP3996.html; ComponentLink4Description: SDA10A Package Page; ComponentLink4URL: http://www.national.com/packaging/folders/sda10a.html
footprint SDA10A (SON, 10-Leads, Body 3x3 mm, Pitch 0.5mm, NSC Recommended)
pins: 1 IN (power), 2 EN1 (in), 3 EN2 (in), 4 CBYP, 5 SET (in), 6 GND (power), 7 NC, 8 POR (oc), 9 OUT2 (power), 10 OUT1 (power), 11 DAP (power)

## LP3996SD-3308
designator U?
Dual Linear Regulator with 300mA and 150mA Outputs and Power-On-Reset, 10-pin LLP; PartNumber: LP3996SD-3308; Manufacturer: National Semiconductor; PackageTopMarking: ZXYTT*L188B; PowerWise: N; CompType: LDO IC; High-Reliability: Y; DatasheetVersion: Jan-2008; PackageVersion: revA, Oct-2003; PackageReference: SDA10A; PackageDescription: LLP, Plastic, Dual, 3 x 3 x 0.8mm Body, 10 Lead, 0.5mm Pitch, No Pullback; RoHS: N; PinCount: 10; ComponentLink1Description: Manufacturer URL; ComponentLink1URL: http://www.national.com/; ComponentLink2Description: LP3996 Datasheet; ComponentLink2URL: http://www.national.com/ds/LP/LP3996.pdf; ComponentLink3Description: LP3996 Web Page; ComponentLink3URL: http://www.national.com/pf/LP/LP3996.html; ComponentLink4Description: SDA10A Package Page; ComponentLink4URL: http://www.national.com/packaging/folders/sda10a.html
footprint SDA10A (SON, 10-Leads, Body 3x3 mm, Pitch 0.5mm, NSC Recommended)
pins: 1 IN (power), 2 EN1 (in), 3 EN2 (in), 4 CBYP, 5 SET (in), 6 GND (power), 7 NC, 8 POR (oc), 9 OUT2 (power), 10 OUT1 (power), 11 DAP (power)

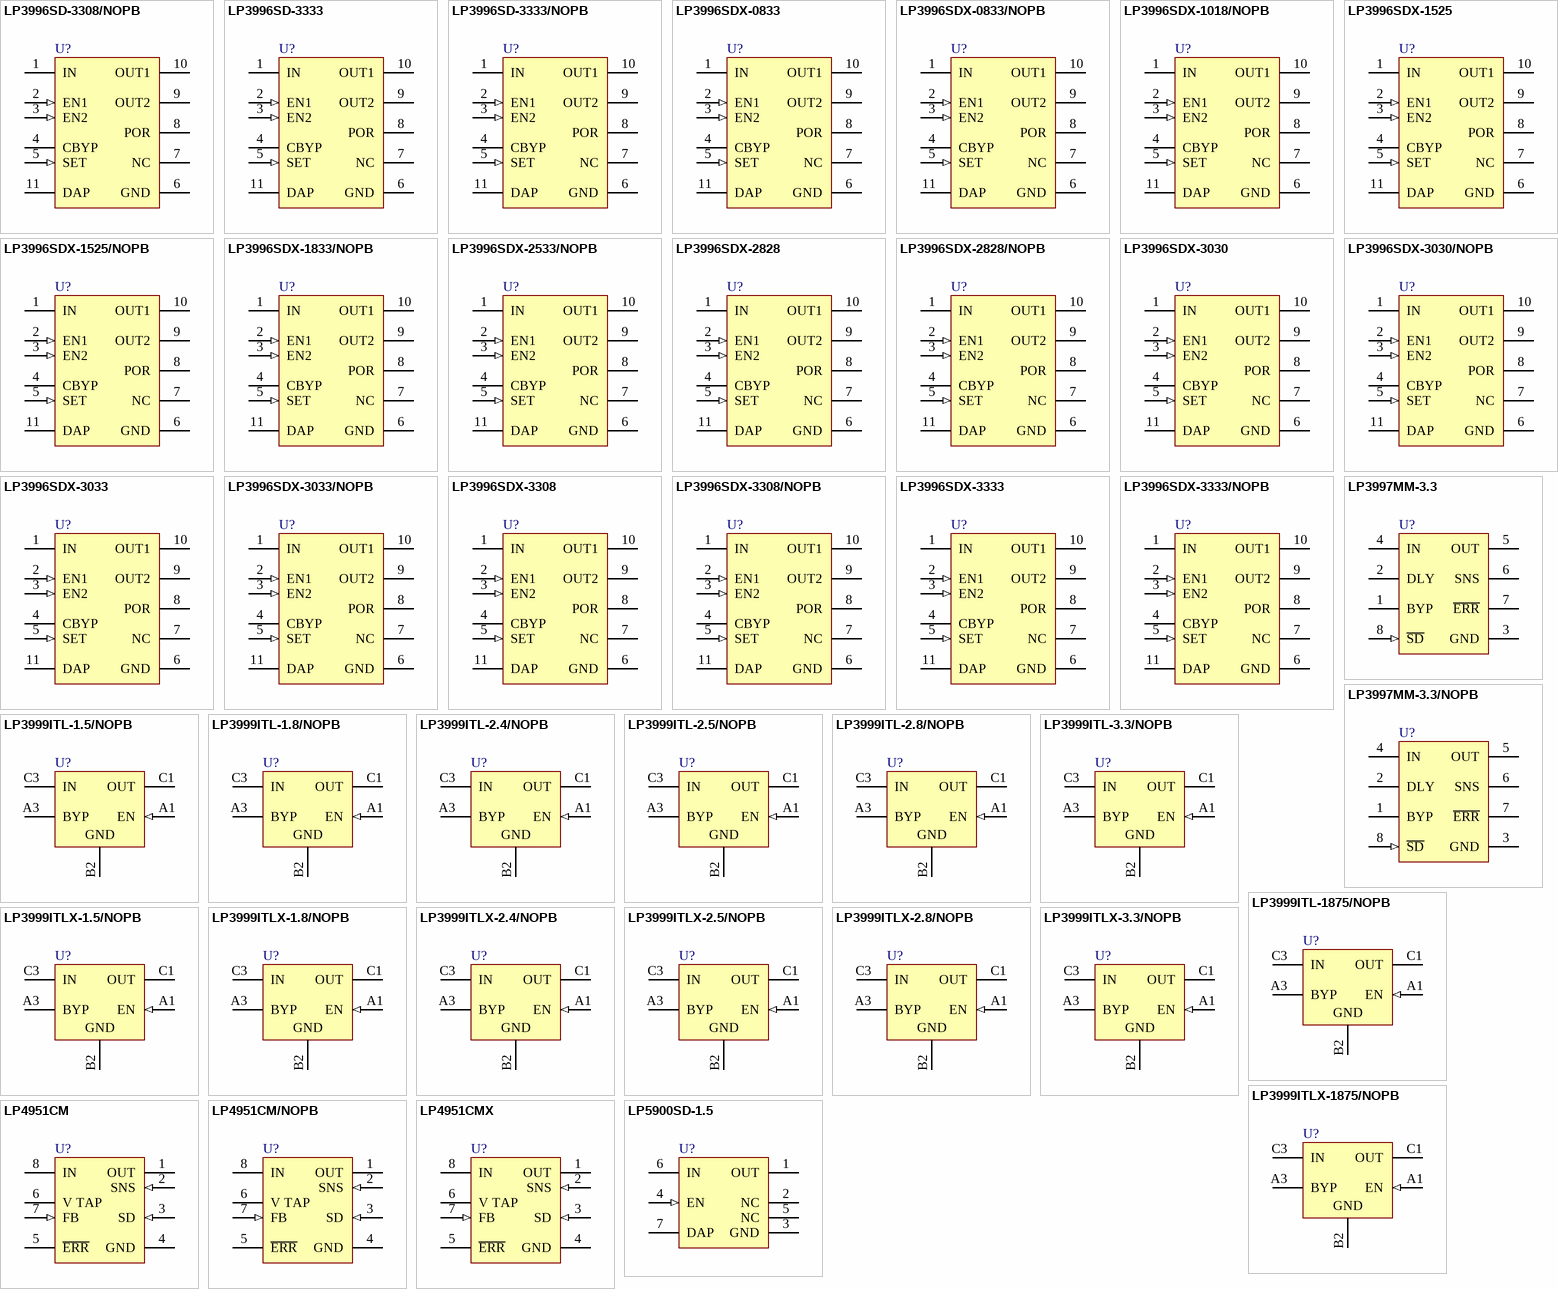
[diagram p51: symbols LP3996SD-3308/NOPB to LP5900SD-1.5]

## LP3996SD-3308/NOPB
designator U?
Dual Linear Regulator with 300mA and 150mA Outputs and Power-On-Reset, 10-pin LLP, Pb-Free; PartNumber: LP3996SD-3308/NOPB; Manufacturer: National Semiconductor; PackageTopMarking: ZXYTT*L188B; PowerWise: N; CompType: LDO IC; High-Reliability: Y; DatasheetVersion: Jan-2008; PackageVersion: revA, Oct-2003; PackageReference: SDA10A; PackageDescription: LLP, Plastic, Dual, 3 x 3 x 0.8mm Body, 10 Lead, 0.5mm Pitch, No Pullback; RoHS: Y; PinCount: 10; ComponentLink1Description: Manufacturer URL; ComponentLink1URL: http://www.national.com/; ComponentLink2Description: LP3996 Datasheet; ComponentLink2URL: http://www.national.com/ds/LP/LP3996.pdf; ComponentLink3Description: LP3996 Web Page; ComponentLink3URL: http://www.national.com/pf/LP/LP3996.html; ComponentLink4Description: SDA10A Package Page; ComponentLink4URL: http://www.national.com/packaging/folders/sda10a.html
footprint SDA10A (SON, 10-Leads, Body 3x3 mm, Pitch 0.5mm, NSC Recommended)
pins: 1 IN (power), 2 EN1 (in), 3 EN2 (in), 4 CBYP, 5 SET (in), 6 GND (power), 7 NC, 8 POR (oc), 9 OUT2 (power), 10 OUT1 (power), 11 DAP (power)

## LP3996SD-3333
designator U?
Dual Linear Regulator with 300mA and 150mA Outputs and Power-On-Reset, 10-pin LLP; PartNumber: LP3996SD-3333; Manufacturer: National Semiconductor; PackageTopMarking: ZXYTT*L173B; PowerWise: N; CompType: LDO IC; High-Reliability: Y; DatasheetVersion: Jan-2008; PackageVersion: revA, Oct-2003; PackageReference: SDA10A; PackageDescription: LLP, Plastic, Dual, 3 x 3 x 0.8mm Body, 10 Lead, 0.5mm Pitch, No Pullback; RoHS: N; PinCount: 10; ComponentLink1Description: Manufacturer URL; ComponentLink1URL: http://www.national.com/; ComponentLink2Description: LP3996 Datasheet; ComponentLink2URL: http://www.national.com/ds/LP/LP3996.pdf; ComponentLink3Description: LP3996 Web Page; ComponentLink3URL: http://www.national.com/pf/LP/LP3996.html; ComponentLink4Description: SDA10A Package Page; ComponentLink4URL: http://www.national.com/packaging/folders/sda10a.html
footprint SDA10A (SON, 10-Leads, Body 3x3 mm, Pitch 0.5mm, NSC Recommended)
pins: 1 IN (power), 2 EN1 (in), 3 EN2 (in), 4 CBYP, 5 SET (in), 6 GND (power), 7 NC, 8 POR (oc), 9 OUT2 (power), 10 OUT1 (power), 11 DAP (power)

## LP3996SD-3333/NOPB
designator U?
Dual Linear Regulator with 300mA and 150mA Outputs and Power-On-Reset, 10-pin LLP, Pb-Free; PartNumber: LP3996SD-3333/NOPB; Manufacturer: National Semiconductor; PackageTopMarking: ZXYTT*L173B; PowerWise: N; CompType: LDO IC; High-Reliability: Y; DatasheetVersion: Jan-2008; PackageVersion: revA, Oct-2003; PackageReference: SDA10A; PackageDescription: LLP, Plastic, Dual, 3 x 3 x 0.8mm Body, 10 Lead, 0.5mm Pitch, No Pullback; RoHS: Y; PinCount: 10; ComponentLink1Description: Manufacturer URL; ComponentLink1URL: http://www.national.com/; ComponentLink2Description: LP3996 Datasheet; ComponentLink2URL: http://www.national.com/ds/LP/LP3996.pdf; ComponentLink3Description: LP3996 Web Page; ComponentLink3URL: http://www.national.com/pf/LP/LP3996.html; ComponentLink4Description: SDA10A Package Page; ComponentLink4URL: http://www.national.com/packaging/folders/sda10a.html
footprint SDA10A (SON, 10-Leads, Body 3x3 mm, Pitch 0.5mm, NSC Recommended)
pins: 1 IN (power), 2 EN1 (in), 3 EN2 (in), 4 CBYP, 5 SET (in), 6 GND (power), 7 NC, 8 POR (oc), 9 OUT2 (power), 10 OUT1 (power), 11 DAP (power)

## LP3996SDX-0833
designator U?
Dual Linear Regulator with 300mA and 150mA Outputs and Power-On-Reset, 10-pin LLP; PartNumber: LP3996SDX-0833; Manufacturer: National Semiconductor; PackageTopMarking: ZXYTT*L167B; PowerWise: N; CompType: LDO IC; High-Reliability: Y; DatasheetVersion: Jan-2008; PackageVersion: revA, Oct-2003; PackageReference: SDA10A; PackageDescription: LLP, Plastic, Dual, 3 x 3 x 0.8mm Body, 10 Lead, 0.5mm Pitch, No Pullback; RoHS: N; PinCount: 10; ComponentLink1Description: Manufacturer URL; ComponentLink1URL: http://www.national.com/; ComponentLink2Description: LP3996 Datasheet; ComponentLink2URL: http://www.national.com/ds/LP/LP3996.pdf; ComponentLink3Description: LP3996 Web Page; ComponentLink3URL: http://www.national.com/pf/LP/LP3996.html; ComponentLink4Description: SDA10A Package Page; ComponentLink4URL: http://www.national.com/packaging/folders/sda10a.html
footprint SDA10A (SON, 10-Leads, Body 3x3 mm, Pitch 0.5mm, NSC Recommended)
pins: 1 IN (power), 2 EN1 (in), 3 EN2 (in), 4 CBYP, 5 SET (in), 6 GND (power), 7 NC, 8 POR (oc), 9 OUT2 (power), 10 OUT1 (power), 11 DAP (power)

## LP3996SDX-0833/NOPB
designator U?
Dual Linear Regulator with 300mA and 150mA Outputs and Power-On-Reset, 10-pin LLP, Pb-Free; PartNumber: LP3996SDX-0833/NOPB; Manufacturer: National Semiconductor; PackageTopMarking: ZXYTT*L167B; PowerWise: N; CompType: LDO IC; High-Reliability: Y; DatasheetVersion: Jan-2008; PackageVersion: revA, Oct-2003; PackageReference: SDA10A; PackageDescription: LLP, Plastic, Dual, 3 x 3 x 0.8mm Body, 10 Lead, 0.5mm Pitch, No Pullback; RoHS: Y; PinCount: 10; ComponentLink1Description: Manufacturer URL; ComponentLink1URL: http://www.national.com/; ComponentLink2Description: LP3996 Datasheet; ComponentLink2URL: http://www.national.com/ds/LP/LP3996.pdf; ComponentLink3Description: LP3996 Web Page; ComponentLink3URL: http://www.national.com/pf/LP/LP3996.html; ComponentLink4Description: SDA10A Package Page; ComponentLink4URL: http://www.national.com/packaging/folders/sda10a.html
footprint SDA10A (SON, 10-Leads, Body 3x3 mm, Pitch 0.5mm, NSC Recommended)
pins: 1 IN (power), 2 EN1 (in), 3 EN2 (in), 4 CBYP, 5 SET (in), 6 GND (power), 7 NC, 8 POR (oc), 9 OUT2 (power), 10 OUT1 (power), 11 DAP (power)